# Altium integrated library Linear Technology Power Management Switching Regulator LTC1174-LTC3901.IntLib: 2647 symbols (part 295 of 364)
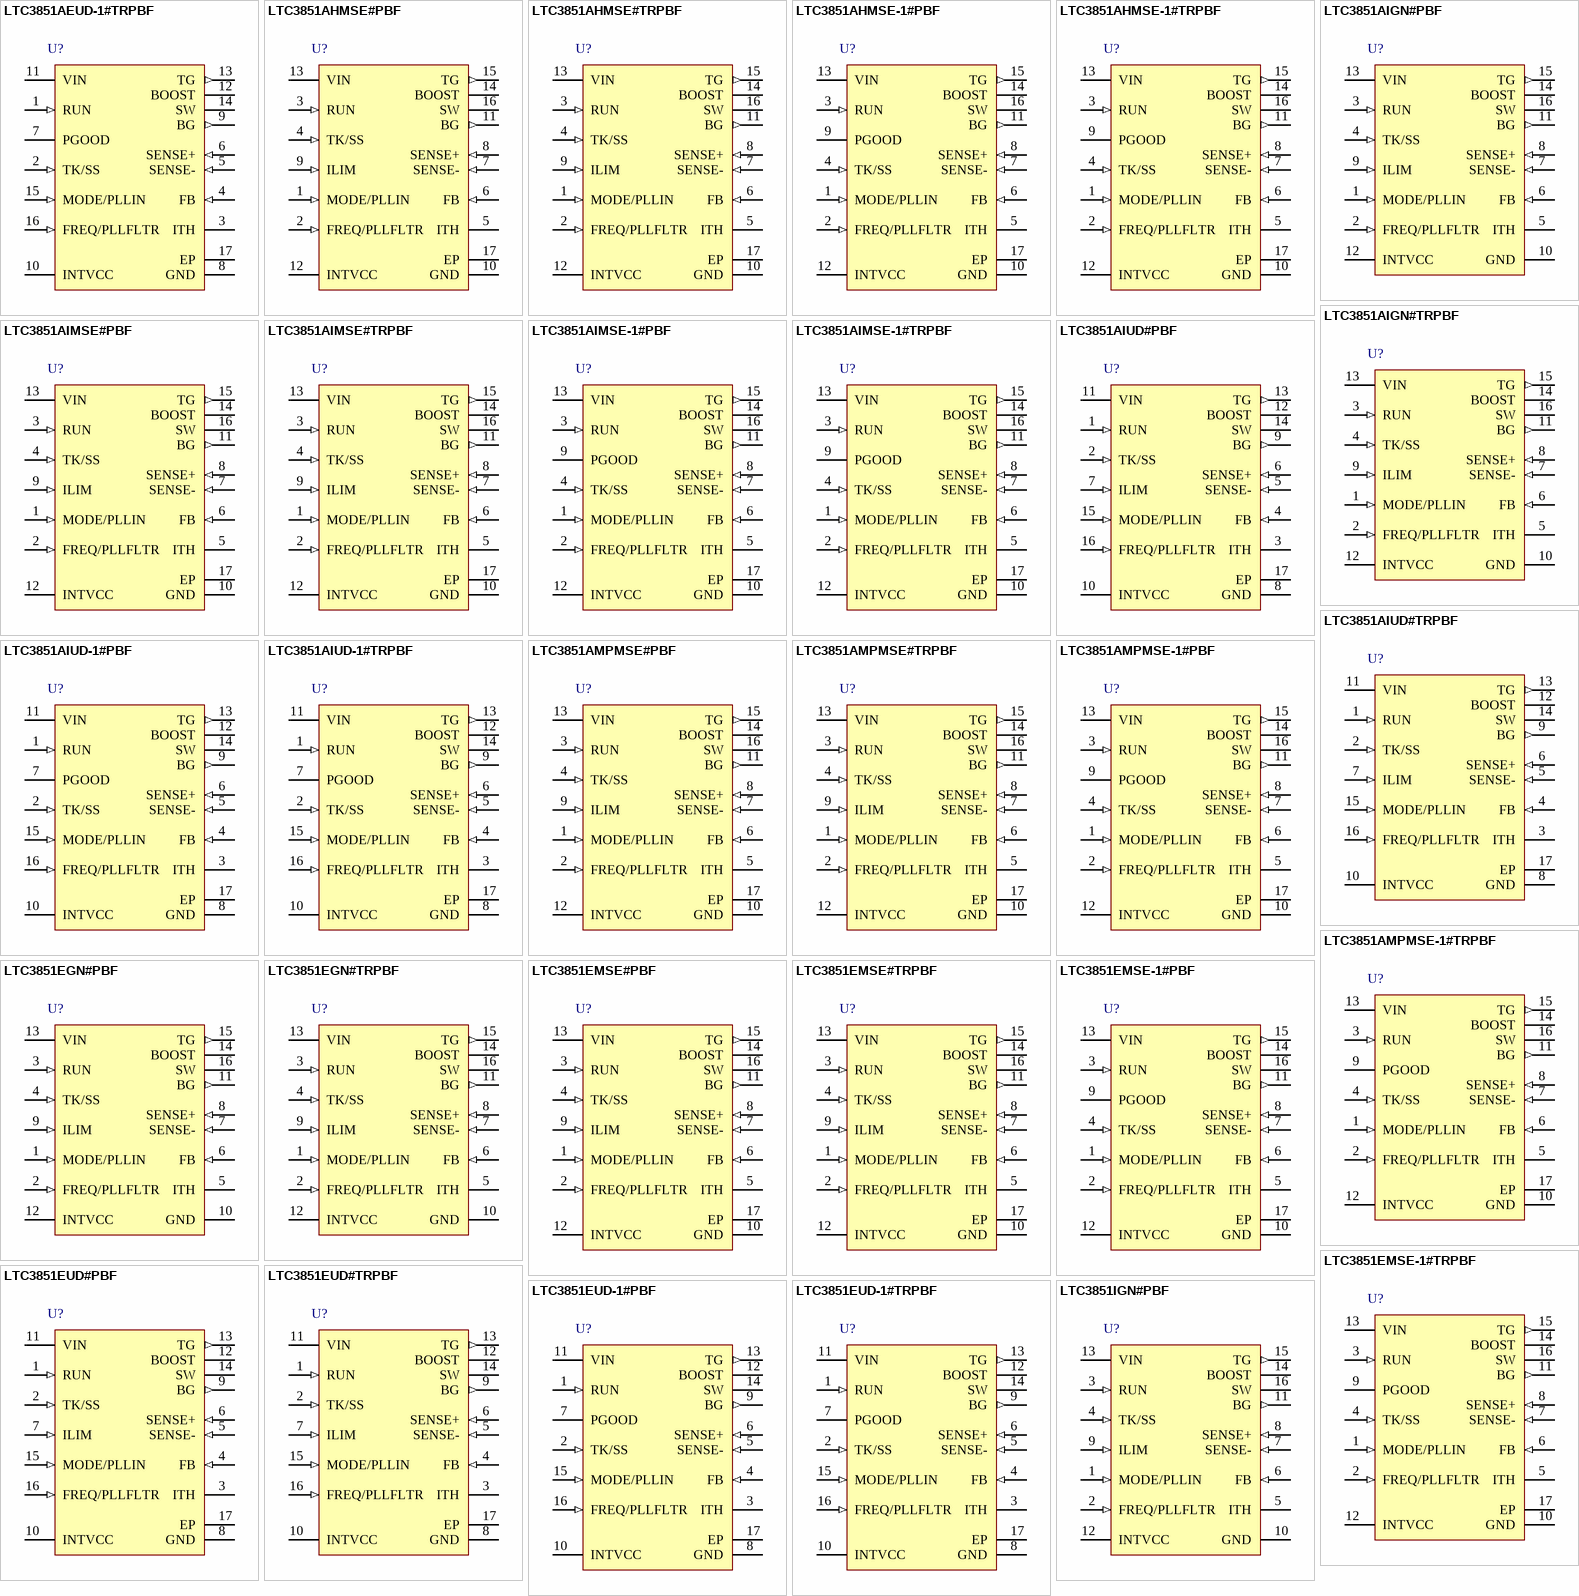
[diagram p369: symbols LTC3851AEUD-1#TRPBF to LTC3851IGN#PBF]

## LTC3851AHMSE#TRPBF
designator U?
Synchronous Step-Down Switching Regulator Controller (with Improved PLL), 16-pin SOP (MSE-16-EDP), -40 to 150 degC, Pb-Free, Tape and Reel; Manufacturer: Linear Technology; PartNumber: LTC3851AHMSE#TRPBF; Frequency Sync Range: 250kHz - 750kHz; Number of Outputs: 1; DatasheetVersion: Rev. A; PackageVersion: Rev. F, 05/2013; PackageReference: MSE-16; PackageDescription: 16-Pin Plastic MSOP, Exposed Die Pad, Body 4.039 x 3 mm, Pitch 0.5 mm; Supplier 1: Digi-Key; Supplier Part Number 1: LTC3851AHMSE#TRPBF-ND; Packing: Tape and Reel; RoHS: TRUE; Mounting Technology: Surface Mount; ComponentLink1Description: Manufacturer URL; ComponentLink1URL: http://www.linear.com/; ComponentLink2Description: Datasheet; ComponentLink2URL: http://cds.linear.com/docs/en/datasheet/3851afa.pdf; ComponentLink3Description: Package Specification; ComponentLink3URL: http://cds.linear.com/docs/en/packaging/05081667_F_MSE16.pdf
footprint LT-MSE-16-EDP_N (SOP, 16-Leads, Body 4.1x3.1mm, Pitch 0.5mm, Thermal Pad 2.95x1.76mm, IPC Medium Density)
footprint LT-MSE-16-EDP_L (SOP, 16-Leads, Body 4.1x3.1mm, Pitch 0.5mm, Thermal Pad 2.95x1.76mm, IPC High Density)
footprint LT-MSE-16-EDP_M (SOP, 16-Leads, Body 4.1x3.1mm, Pitch 0.5mm, Thermal Pad 2.95x1.76mm, IPC Low Density)
pins: 1 MODE/PLLIN (in), 2 FREQ/PLLFLTR (in), 3 RUN (in), 4 TK/SS (in), 5 ITH "Current Control Threshold and Error Amplifier Compensation Point. The current comparator tripping threshold increases with its ITH control voltage.", 6 FB (in) "Error Amplifier Feedback Input. This pin receives the remotely sensed feedback voltage from an external resistive divider across the output.", 7 SENSE- (in) "Current Sense Comparator Inverting Input. The (-) input to the current comparator is connected to the output.", 8 SENSE+ (in) "Current Sense Comparator Noninverting Input. The (+) input to the current comparator is normally connected to the DCR sensing network or current sensing resistor.", 9 ILIM (in) "Current Comparator Sense Voltage Range Input. Tying this pin to GND, FLOAT or INTVCC selects the maximum current sense threshold from three different levels.", 10 GND (power) "Ground.", 11 BG (out) "Bottom Gate Driver Output. This pin drives the gate of the bottom N-channel MOSFET between GND and INTVCC.", 12 INTVCC (power) "Internal 5V Regulator Output. The control circuit is powered from this voltage. Decouple this pin to GND with a minimum 2.2uF low ESR tantalum or ceramic capacitor.", 13 VIN (power) "Main Input Supply. Decouple this pin to GND with a capacitor.", 14 BOOST "Boosted Floating Driver Supply. The (+) terminal of the boost-strap capacitor is connected to this pin. This pin swings from a diode voltage drop below INTVCC up to VIN + INTVCC.", 15 TG (out) "Top Gate Driver Output. This is the output of a floating driver with a voltage swing equal to INTVCC superimposed on the switch node voltage.", 16 SW "Switch Node Connection to the Inductor. Voltage swing at this pin is from a Schottky diode (external) voltage drop below ground to VIN.", 17 EP (power) "Ground."

## LTC3851AHMSE-1#PBF
designator U?
Synchronous Step-Down Switching Regulator Controller, 16-pin SOP (MSE-16-EDP), -40 to 150 degC, Pb-Free; Manufacturer: Linear Technology; PartNumber: LTC3851AHMSE-1#PBF; Frequency Sync Range: 250kHz - 750kHz; Number of Outputs: 1; DatasheetVersion: Rev. A; PackageVersion: Rev. F, 05/2013; PackageReference: MSE-16; PackageDescription: 16-Pin Plastic MSOP, Exposed Die Pad, Body 4.039 x 3 mm, Pitch 0.5 mm; Supplier 1: Digi-Key; Supplier Part Number 1: LTC3851AHMSE-1#PBF-ND; RoHS: TRUE; Mounting Technology: Surface Mount; ComponentLink1Description: Manufacturer URL; ComponentLink1URL: http://www.linear.com/; ComponentLink2Description: Datasheet; ComponentLink2URL: http://cds.linear.com/docs/en/datasheet/3851a1fa.pdf; ComponentLink3Description: Package Specification; ComponentLink3URL: http://cds.linear.com/docs/en/packaging/05081667_F_MSE16.pdf
footprint LT-MSE-16-EDP_N (SOP, 16-Leads, Body 4.1x3.1mm, Pitch 0.5mm, Thermal Pad 2.95x1.76mm, IPC Medium Density)
footprint LT-MSE-16-EDP_L (SOP, 16-Leads, Body 4.1x3.1mm, Pitch 0.5mm, Thermal Pad 2.95x1.76mm, IPC High Density)
footprint LT-MSE-16-EDP_M (SOP, 16-Leads, Body 4.1x3.1mm, Pitch 0.5mm, Thermal Pad 2.95x1.76mm, IPC Low Density)
pins: 1 MODE/PLLIN (in), 2 FREQ/PLLFLTR (in), 3 RUN (in), 4 TK/SS (in), 5 ITH "Current Control Threshold and Error Amplifier Compensation Point. The current comparator tripping threshold increases with its ITH control voltage.", 6 FB (in) "Error Amplifier Feedback Input. This pin receives the remotely sensed feedback voltage from an external resistive divider across the output.", 7 SENSE- (in) "Current Sense Comparator Inverting Input. The (-) input to the current comparator is connected to the output.", 8 SENSE+ (in) "Current Sense Comparator Noninverting Input. The (+) input to the current comparator is normally connected to the DCR sensing network or current sensing resistor.", 9 PGOOD (oc) "Power Good Indicator Output. Opendrain logic out that is pulled to ground when the output voltage exceeds the +/-10% regulation window, after the internal 17us power bad mask timer expires.", 10 GND (power) "Ground.", 11 BG (out) "Bottom Gate Driver Output. This pin drives the gate of the bottom N-channel MOSFET between GND and INTVCC.", 12 INTVCC (power) "Internal 5V Regulator Output. The control circuit is powered from this voltage. Decouple this pin to GND with a minimum 2.2uF low ESR tantalum or ceramic capacitor.", 13 VIN (power) "Main Input Supply. Decouple this pin to GND with a capacitor.", 14 BOOST "Boosted Floating Driver Supply. The (+) terminal of the boost-strap capacitor is connected to this pin. This pin swings from a diode voltage drop below INTVCC up to VIN + INTVCC.", 15 TG (out) "Top Gate Driver Output. This is the output of a floating driver with a voltage swing equal to INTVCC superimposed on the switch node voltage.", 16 SW "Switch Node Connection to the Inductor. Voltage swing at this pin is from a Schottky diode (external) voltage drop below ground to VIN.", 17 EP (power) "Ground."

## LTC3851AHMSE-1#TRPBF
designator U?
Synchronous Step-Down Switching Regulator Controller, 16-pin SOP (MSE-16-EDP), -40 to 150 degC, Pb-Free, Tape and Reel; Manufacturer: Linear Technology; PartNumber: LTC3851AHMSE-1#TRPBF; Frequency Sync Range: 250kHz - 750kHz; Number of Outputs: 1; DatasheetVersion: Rev. A; PackageVersion: Rev. F, 05/2013; PackageReference: MSE-16; PackageDescription: 16-Pin Plastic MSOP, Exposed Die Pad, Body 4.039 x 3 mm, Pitch 0.5 mm; Supplier 1: Digi-Key; Supplier Part Number 1: LTC3851AHMSE-1#TRPBF-ND; Packing: Tape and Reel; RoHS: TRUE; Mounting Technology: Surface Mount; ComponentLink1Description: Manufacturer URL; ComponentLink1URL: http://www.linear.com/; ComponentLink2Description: Datasheet; ComponentLink2URL: http://cds.linear.com/docs/en/datasheet/3851a1fa.pdf; ComponentLink3Description: Package Specification; ComponentLink3URL: http://cds.linear.com/docs/en/packaging/05081667_F_MSE16.pdf
footprint LT-MSE-16-EDP_N (SOP, 16-Leads, Body 4.1x3.1mm, Pitch 0.5mm, Thermal Pad 2.95x1.76mm, IPC Medium Density)
footprint LT-MSE-16-EDP_L (SOP, 16-Leads, Body 4.1x3.1mm, Pitch 0.5mm, Thermal Pad 2.95x1.76mm, IPC High Density)
footprint LT-MSE-16-EDP_M (SOP, 16-Leads, Body 4.1x3.1mm, Pitch 0.5mm, Thermal Pad 2.95x1.76mm, IPC Low Density)
pins: 1 MODE/PLLIN (in), 2 FREQ/PLLFLTR (in), 3 RUN (in), 4 TK/SS (in), 5 ITH "Current Control Threshold and Error Amplifier Compensation Point. The current comparator tripping threshold increases with its ITH control voltage.", 6 FB (in) "Error Amplifier Feedback Input. This pin receives the remotely sensed feedback voltage from an external resistive divider across the output.", 7 SENSE- (in) "Current Sense Comparator Inverting Input. The (-) input to the current comparator is connected to the output.", 8 SENSE+ (in) "Current Sense Comparator Noninverting Input. The (+) input to the current comparator is normally connected to the DCR sensing network or current sensing resistor.", 9 PGOOD (oc) "Power Good Indicator Output. Opendrain logic out that is pulled to ground when the output voltage exceeds the +/-10% regulation window, after the internal 17us power bad mask timer expires.", 10 GND (power) "Ground.", 11 BG (out) "Bottom Gate Driver Output. This pin drives the gate of the bottom N-channel MOSFET between GND and INTVCC.", 12 INTVCC (power) "Internal 5V Regulator Output. The control circuit is powered from this voltage. Decouple this pin to GND with a minimum 2.2uF low ESR tantalum or ceramic capacitor.", 13 VIN (power) "Main Input Supply. Decouple this pin to GND with a capacitor.", 14 BOOST "Boosted Floating Driver Supply. The (+) terminal of the boost-strap capacitor is connected to this pin. This pin swings from a diode voltage drop below INTVCC up to VIN + INTVCC.", 15 TG (out) "Top Gate Driver Output. This is the output of a floating driver with a voltage swing equal to INTVCC superimposed on the switch node voltage.", 16 SW "Switch Node Connection to the Inductor. Voltage swing at this pin is from a Schottky diode (external) voltage drop below ground to VIN.", 17 EP (power) "Ground."

## LTC3851AIGN#PBF
designator U?
Synchronous Step-Down Switching Regulator Controller (with Improved PLL), 16-pin SOP (GN-16), -40 to 125 degC, Pb-Free; Manufacturer: Linear Technology; PartNumber: LTC3851AIGN#PBF; Frequency Sync Range: 250kHz - 750kHz; Number of Outputs: 1; DatasheetVersion: Rev. A; PackageVersion: Rev. B, 03/2012; PackageReference: GN-16; PackageDescription: 16-Pin Plastic SSOP, Body 4.9 x 3.9 mm, Pitch 0.635 mm; Supplier 1: Digi-Key; Supplier Part Number 1: LTC3851AIGN#PBF-ND; RoHS: TRUE; Mounting Technology: Surface Mount; ComponentLink1Description: Manufacturer URL; ComponentLink1URL: http://www.linear.com/; ComponentLink2Description: Datasheet; ComponentLink2URL: http://cds.linear.com/docs/en/datasheet/3851afa.pdf; ComponentLink3Description: Package Specification; ComponentLink3URL: http://cds.linear.com/docs/en/packaging/05081641_B_GN16.pdf
footprint LT-GN-16_N (SOP, 16-Leads, Body 5x4mm, Pitch 0.635mm, IPC Medium Density)
footprint LT-GN-16_L (SOP, 16-Leads, Body 5x4mm, Pitch 0.635mm, IPC High Density)
footprint LT-GN-16_M (SOP, 16-Leads, Body 5x4mm, Pitch 0.635mm, IPC Low Density)
pins: 1 MODE/PLLIN (in), 2 FREQ/PLLFLTR (in), 3 RUN (in), 4 TK/SS (in), 5 ITH "Current Control Threshold and Error Amplifier Compensation Point. The current comparator tripping threshold increases with its ITH control voltage.", 6 FB (in) "Error Amplifier Feedback Input. This pin receives the remotely sensed feedback voltage from an external resistive divider across the output.", 7 SENSE- (in) "Current Sense Comparator Inverting Input. The (-) input to the current comparator is connected to the output.", 8 SENSE+ (in) "Current Sense Comparator Noninverting Input. The (+) input to the current comparator is normally connected to the DCR sensing network or current sensing resistor.", 9 ILIM (in) "Current Comparator Sense Voltage Range Input. Tying this pin to GND, FLOAT or INTVCC selects the maximum current sense threshold from three different levels.", 10 GND (power), 11 BG (out) "Bottom Gate Driver Output. This pin drives the gate of the bottom N-channel MOSFET between GND and INTVCC.", 12 INTVCC (power) "Internal 5V Regulator Output. The control circuit is powered from this voltage. Decouple this pin to GND with a minimum 2.2uF low ESR tantalum or ceramic capacitor.", 13 VIN (power) "Main Input Supply. Decouple this pin to GND with a capacitor.", 14 BOOST "Boosted Floating Driver Supply. The (+) terminal of the boost-strap capacitor is connected to this pin. This pin swings from a diode voltage drop below INTVCC up to VIN + INTVCC.", 15 TG (out) "Top Gate Driver Output. This is the output of a floating driver with a voltage swing equal to INTVCC superimposed on the switch node voltage.", 16 SW "Switch Node Connection to the Inductor. Voltage swing at this pin is from a Schottky diode (external) voltage drop below ground to VIN."